# Altium schematic symbol library Schlib1.SchLib: 36 symbols (part 1 of 2)
Pins are listed as number, name and electrical type; pins without a type are passive.

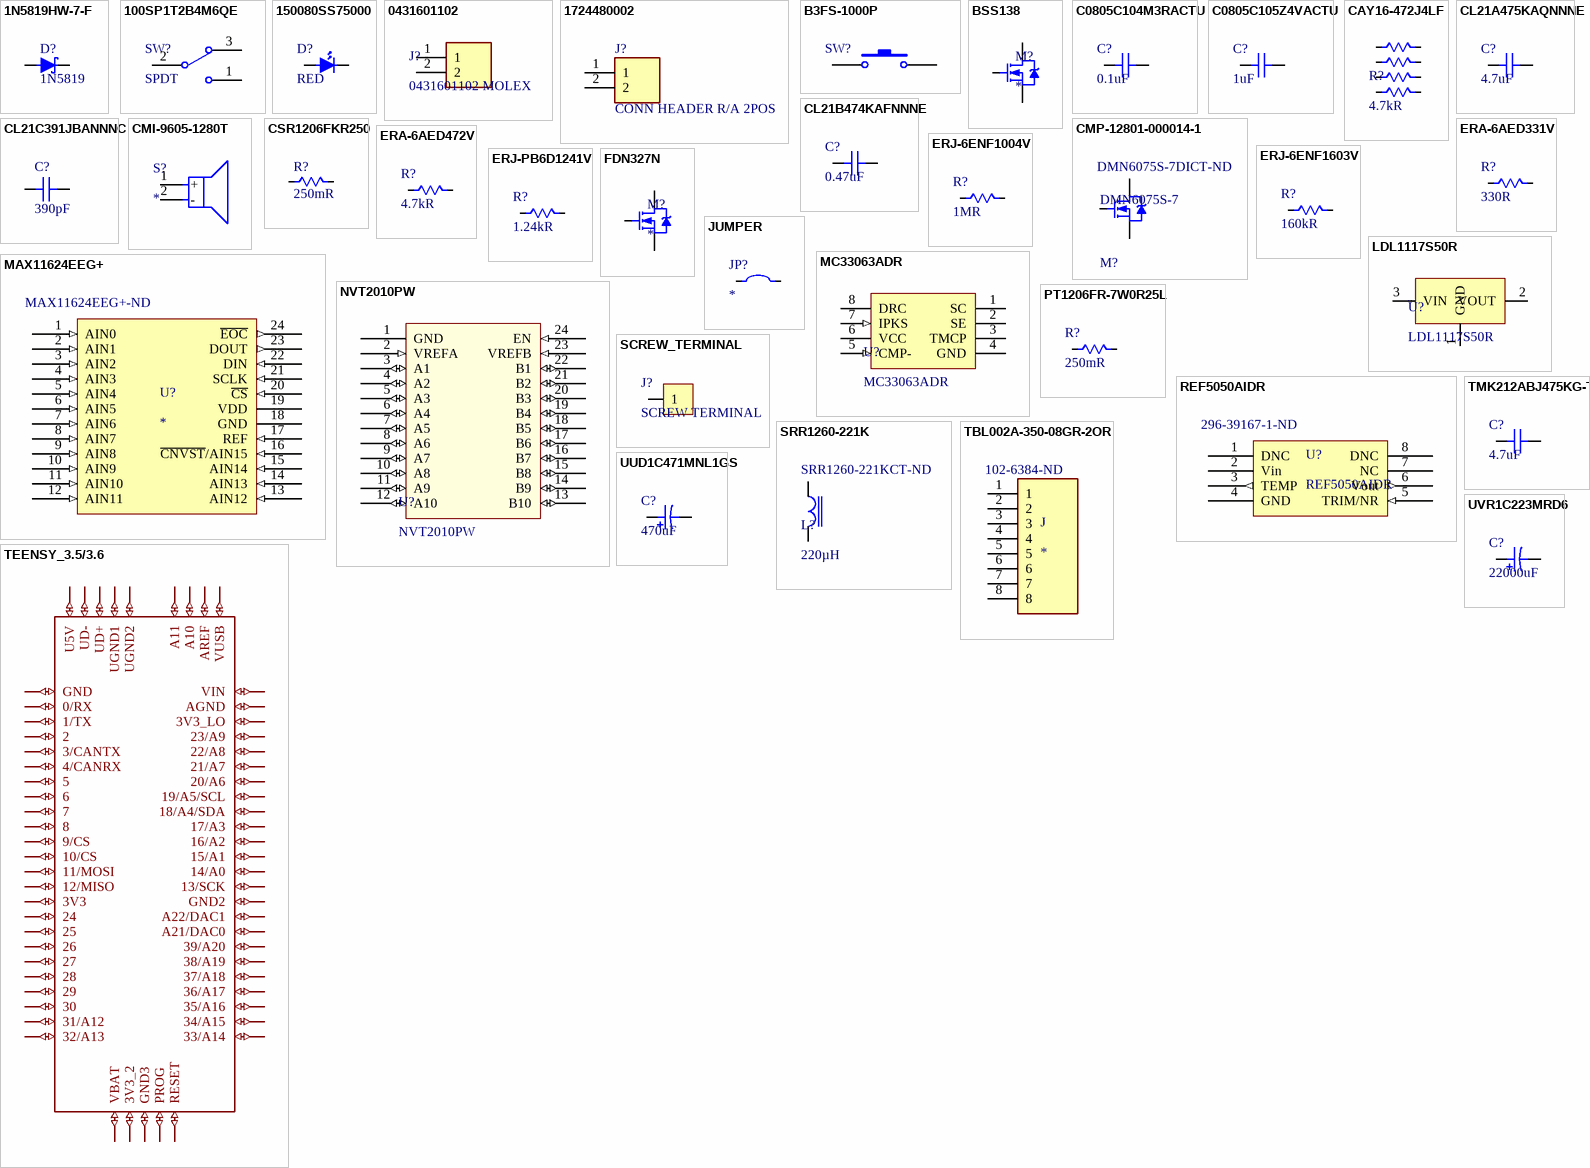
[diagram p0: symbols 1N5819HW-7-F to UVR1C223MRD6]

## 1N5819HW-7-F
designator D?, comment 1N5819
DIODES INC. - 1N5819HW-7-F - DIODE, SCKY RECTI, 1A, 40V, SOD123; Element Configuration: Single; Peak Non-Repetitive Surge Current: 25A; Forward Voltage: 450mV; Peak Reverse Current: 50uA; Polarity: Standard; Capacitance: 110pF; Max Power Dissipation: 450mW; Supplier 1: Digi-Key; Manufacturer: Diodes; Manufacturer Part Number: 1N5819HW-7-F; RoHS: Yes; Category: Diode; Stock 1: 502732; Pricing 1: 1=0.40000, 10=0.30100, 25=0.26360, 100=0.14310, 500=0.11678, 1000=0.08664 (USD); Case/Package: SOD-123-2; Number of Pins: 2; Weight: 0.000353oz; Contact Plating: Tin,Matte; Min Operating Temperature: -65°C; Max Operating Temperature: 125°C; Packaging: Tape and Reel; Package Quantity: 3000; Forward Current: 1A; Max Repetitive Reverse Voltage (Vrrm): 40V; Average Rectified Current: 1A; Max Reverse Voltage (DC): 40V; Max Forward Surge Current (Ifsm): 25A; Current Rating: 1A; Voltage Rating (DC): 40V; Output Current: 1A; Termination: SMD/SMT; Length: 2.85mm; Height: 1.25mm; Width: 1.7mm; Radiation Hardening: No; Lead Free: Lead Free; REACH SVHC: No SVHC; ComponentLink1URL: https://datasheet.ciiva.com/16303/ds30217-16303296.pdf?src-supplier=Future+Electronics; ComponentLink1Description: https://datasheet.ciiva.com/16303/ds30217-16303296.pdf?src-supplier=Future+Electronics; ComponentLink2URL: https://datasheet.ciiva.com/27092/1538419-27092484.pdf?src-supplier=Jameco; ComponentLink2Description: https://datasheet.ciiva.com/27092/1538419-27092484.pdf?src-supplier=Jameco; ComponentLink3URL: https://datasheet.ciiva.com/912/ds30217-912801.pdf?src-supplier=Digi-Key; ComponentLink3Description: https://datasheet.ciiva.com/912/ds30217-912801.pdf?src-supplier=Digi-Key; ComponentLink4URL: https://datasheet.ciiva.com/1177/ds30217-1177089.pdf?src-supplier=Element14; ComponentLink4Description: https://datasheet.ciiva.com/1177/ds30217-1177089.pdf?src-supplier=Element14; ComponentLink5URL: https://datasheet.ciiva.com/912/ds30217-912802.pdf?src-supplier=Digi-Key; ComponentLink5Description: https://datasheet.ciiva.com/912/ds30217-912802.pdf?src-supplier=Digi-Key; ComponentLink6URL: https://datasheet.ciiva.com/912/ds30217-912803.pdf?src-supplier=Digi-Key; ComponentLink6Description: https://datasheet.ciiva.com/912/ds30217-912803.pdf?src-supplier=Digi-Key; ComponentLink7URL: https://datasheet.ciiva.com/8303/ds30217-8303132.pdf?src-supplier=Avnet; ComponentLink7Description: https://datasheet.ciiva.com/8303/ds30217-8303132.pdf?src-supplier=Avnet; ComponentLink8URL: https://datasheet.ciiva.com/25919/ds30217-25919644.pdf?src-supplier=Avnet+Europe; ComponentLink8Description: https://datasheet.ciiva.com/25919/ds30217-25919644.pdf?src-supplier=Avnet+Europe; Supplier Part Number 1: 1N5819HW-FDICT-ND
footprint SOD123
pins: 1, 2

## 100SP1T2B4M6QE
designator SW?, comment SPDT
Switch Toggle ON None ON SPDT Round Lever PC Pins 5A 250VAC 28VDC PC Mount with Bracket; Manufacturer: E-Switch; Manufacturer Part Number: 100SP1T2B4M6QE; Actuator Material: Brass; Switch Function: On-On; Actuator Type: Standard Round; Voltage Rating (AC): 120V; Voltage Rating (DC): 28V; Contact Resistance: 100mR; Max Voltage Rating (AC): 250V; Illumination Type: Non-Illuminated; Electrical Life: 40000Cycles; Actuator Length: 6.46mm; Supplier 1: Digi-Key; Category: Switch; Stock 1: 3257; Pricing 1: 1=3.01000, 10=2.69700, 25=2.54800, 50=2.43620, 100=2.31200, 250=2.21256, 500=2.03852, 1000=1.93908 (USD); Mount: Through Hole; Housing Material: Stainless Steel; Contact Material: Silver; Contact Plating: Silver; Min Operating Temperature: -30°C; Max Operating Temperature: 85°C; Throw Configuration: SPDT; Package Quantity: 1; Current Rating: 5A; Packaging: Bulk; Max Voltage Rating (DC): 28V; Termination: PC Pin; Orientation: Right Angle; Length: 12.7mm; Width: 6.86mm; Lead Free: Lead Free; ComponentLink1URL: https://datasheet.ciiva.com/2904/t111069-2904823.pdf?src-supplier=Digi-Key; ComponentLink1Description: https://datasheet.ciiva.com/2904/t111069-2904823.pdf?src-supplier=Digi-Key; ComponentLink2URL: https://datasheet.ciiva.com/16154/100-16154566.pdf?src-supplier=Onlinecomponents.com; ComponentLink2Description: https://datasheet.ciiva.com/16154/100-16154566.pdf?src-supplier=Onlinecomponents.com; ComponentLink3URL: http://datasheet.octopart.com/100SP1T2B4M6QE-E-Switch-datasheet-501321.pdf?src-supplier=Electro+Sonic; ComponentLink3Description: http://datasheet.octopart.com/100SP1T2B4M6QE-E-Switch-datasheet-501321.pdf?src-supplier=Electro+Sonic; ComponentLink4URL: http://datasheet.octopart.com/100SP1T2B4M6QE-E-Switch-datasheet-41351065.pdf?src-supplier=Farnell; ComponentLink4Description: http://datasheet.octopart.com/100SP1T2B4M6QE-E-Switch-datasheet-41351065.pdf?src-supplier=Farnell; ComponentLink5URL: http://datasheet.octopart.com/100SP1T2B4M6QE-E-Switch-datasheet-112052116.pdf?src-supplier=Electro+Sonic; ComponentLink5Description: http://datasheet.octopart.com/100SP1T2B4M6QE-E-Switch-datasheet-112052116.pdf?src-supplier=Electro+Sonic; ComponentLink6URL: http://datasheet.octopart.com/100SP1T2B4M6QE-E-Switch-datasheet-26830754.pdf?src-supplier=Electro+Sonic; ComponentLink6Description: http://datasheet.octopart.com/100SP1T2B4M6QE-E-Switch-datasheet-26830754.pdf?src-supplier=Electro+Sonic; ComponentLink7URL: http://datasheet.octopart.com/100SP1T2B4M6QE-E-Switch-datasheet-62101310.pdf?src-supplier=Electro+Sonic; ComponentLink7Description: http://datasheet.octopart.com/100SP1T2B4M6QE-E-Switch-datasheet-62101310.pdf?src-supplier=Electro+Sonic; Supplier Part Number 1: EG2362-ND
footprint 100SP1T2B4M6QE
pins: 1, 2, 3

## 150080SS75000
designator D?, comment RED
WURTH ELEKTRONIK   150080SS75000   LED, 0805, SUP RED, 60MCD, 630NM; Manufacturer: Wurth Electronics; Forward Current: 30mA; Forward Voltage: 1.9V; Viewing Angle: 140°; Lens Style: Clear,Rectangular; Test Current: 20mA; Supplier 1: Digi-Key; Manufacturer Part Number: 150080SS75000; RoHS: Yes; Category: LEDs; Stock 1: 6006; Pricing 1: 1=0.18000, 50=0.16500, 100=0.14200, 500=0.12300 (USD); Mount: Surface Mount; Case/Package: 0805; Color: Red; Case Code (Metric): 2012; Case Code (Imperial): 0805; Min Operating Temperature: -40°C; Max Operating Temperature: 85°C; Luminous Intensity: 60mcd; Wavelength: 630nm; Package Quantity: 4000; Packaging: Tape and Reel; Dominant Wavelength: 630nm; Length: 2mm; Height: 0.7mm; Width: 1.25mm; REACH SVHC: Unknown; ComponentLink1URL: https://datasheet.ciiva.com/22656/150080ss75000-22656963.pdf?src-supplier=Element14; ComponentLink1Description: https://datasheet.ciiva.com/22656/150080ss75000-22656963.pdf?src-supplier=Element14; ComponentLink2URL: https://datasheet.ciiva.com/29279/759436-da-01-en-chipled-0805-w-kl-s-rot-150080ss75000-29279211.pdf?src-supplier=Conrad; ComponentLink2Description: https://datasheet.ciiva.com/29279/759436-da-01-en-chipled-0805-w-kl-s-rot-150080ss75000-29279211.pdf?src-supplier=Conrad; ComponentLink3URL: https://datasheet.ciiva.com/29563/150080ss75000-29563014.pdf?src-supplier=Digi-Key; ComponentLink3Description: https://datasheet.ciiva.com/29563/150080ss75000-29563014.pdf?src-supplier=Digi-Key; ComponentLink4URL: https://datasheet.ciiva.com/29563/150080ss75000-29563015.pdf?src-supplier=Digi-Key; ComponentLink4Description: https://datasheet.ciiva.com/29563/150080ss75000-29563015.pdf?src-supplier=Digi-Key; ComponentLink5URL: https://datasheet.ciiva.com/29563/150080ss75000-29563013.pdf?src-supplier=Digi-Key; ComponentLink5Description: https://datasheet.ciiva.com/29563/150080ss75000-29563013.pdf?src-supplier=Digi-Key; Supplier Part Number 1: 732-4985-1-ND
footprint 150080SS75000
pins: 1, 2

## 0431601102
designator J?, comment 0431601102 MOLEX
Conn Power HDR 2 POS 7.49mm Solder RA Thru-Hole 4 Terminal 1 Port Sabre™ Tray; Number of Positions: 2; Voltage Rating: 600V; Current Rating: 18A; Number of Ports: 1; Supplier 1: Digi-Key; Manufacturer: Molex; Manufacturer Part Number: 0431601102; RoHS: Yes; Category: Connector; Stock 1: 1299; Pricing 1: 1=1.45000, 10=1.27400, 100=1.09960, 500=0.89964, 1000=0.79968, 5000=0.69972, 10000=0.66473 (USD); Mount: Through Hole; Contact Material: Brass; Contact Plating: Tin,Copper; Color: Black; Housing Material: Nylon; Number of Terminals: 4; Insulation Material: Nylon; Min Operating Temperature: -40°C; Max Operating Temperature: 75°C; Termination: Solder; Number of Contacts: 2; Packaging: Tray; Number of Rows: 1; Orientation: Right Angle; Fastening Type: Ramp; Length: 21.08mm; Pitch: 7.49mm; Depth: 19.79mm; ComponentLink1URL: http://components.arrow.com/part/dataview/2942885S5777586N3303?src-supplier=Arrow; ComponentLink1Description: http://components.arrow.com/part/dataview/2942885S5777586N3303?src-supplier=Arrow; ComponentLink2URL: http://components.arrow.com/part/dataview/0323_01950480?src-supplier=Arrow+Europe; ComponentLink2Description: http://components.arrow.com/part/dataview/0323_01950480?src-supplier=Arrow+Europe; ComponentLink3URL: https://www.molex.com/pdm_docs/ps/PS-44441-9999.pdf?src-supplier=Digi-Key; ComponentLink3Description: https://www.molex.com/pdm_docs/ps/PS-44441-9999.pdf?src-supplier=Digi-Key; Supplier Part Number 1: WM18483-ND
footprint 0431601102 (CONN HDR 2POS 7.50MM R/A SLDR)
pins: 1, 2

## 1724480002
designator J?, comment CONN HEADER R/A 2POS
Manufacturer: Molex; Manufacturer Part Number: 1724480002; Connector Type: Male Pin; Number of Circuits: 2; Row Spacing: 0.165inch; Glow Wire Compliant: Compliant; Supplier 1: Digi-Key; RoHS: No; Category: Headers and Wire Housings; Stock 1: 6210; Pricing 1: 1=0.55000, 10=0.46000, 100=0.35780, 1000=0.28116, 5000=0.24708, 10000=0.23004 (USD); Mount: Through Hole; Number of Pins: 2; Contact Plating: Tin; Color: Black; Orientation: Right Angle; Packaging: Tray; Number of Positions: 2; Number of Rows: 2; Termination: Solder; Fastening Type: Ramp; ComponentLink1URL: https://www.molex.com/pdm_docs/sd/1724480002_sd.pdf?src-supplier=Digi-Key; ComponentLink1Description: https://www.molex.com/pdm_docs/sd/1724480002_sd.pdf?src-supplier=Digi-Key; Supplier Part Number 1: WM16206-ND
footprint 2 POS MOLEX (1724480002)
pins: 1, 2

## B3FS-1000P
designator SW?  (value not drawn)
OMRON - B3FS1000P - SWITCH, FLAT, 6X6X3.1, 100GF; Manufacturer Part Number: B3FS-1000P; Mechanical Life: 1000000Cycles; Throw Configuration: SPST; Current Rating: 50mA; Operating Force: 0.98N; Voltage Rating (DC): 24V; Contact Resistance: 100mR; Illumination Type: Non-Illuminated,Illuminated; Number of Poles: 1; Switch Travel: 0.25mm; Switch Function: Off-Mom; Actuator Type: Standard; Actuator Length: 0.5mm; Supplier 1: Digi-Key; Manufacturer: Omron; RoHS: Yes; Category: Switch; Stock 1: 62498; Pricing 1: 1=0.59000, 10=0.57000, 25=0.54880, 100=0.47500, 250=0.43276, 500=0.40110, 1000=0.35887 (USD); Mount: Surface Mount; Case/Package: SMD/SMT; Weight: 0.2g; Contact Plating: Silver; Contact Material: Silver; Material: Plastic; Min Operating Temperature: -25°C; Max Operating Temperature: 70°C; Package Quantity: 1; Packaging: Tape and Reel; Contact Current Rating: 50mA; Max Current Rating: 50mA; Max Voltage Rating (DC): 24V; Termination: Gull Wing; Electrical Life: 1000000Cycles; Orientation: Straight; Length: 6.3mm; Depth: 8mm; REACH SVHC: Unknown; Lead Free: Lead Free; ComponentLink1URL: https://datasheet.ciiva.com/2899/en-b3fs-2899744.pdf?src-supplier=Digi-Key; ComponentLink1Description: https://datasheet.ciiva.com/2899/en-b3fs-2899744.pdf?src-supplier=Digi-Key; ComponentLink2URL: https://datasheet.ciiva.com/2899/en-b3fs-2899745.pdf?src-supplier=Digi-Key; ComponentLink2Description: https://datasheet.ciiva.com/2899/en-b3fs-2899745.pdf?src-supplier=Digi-Key; ComponentLink3URL: https://datasheet.ciiva.com/2899/en-b3fs-2899746.pdf?src-supplier=Digi-Key; ComponentLink3Description: https://datasheet.ciiva.com/2899/en-b3fs-2899746.pdf?src-supplier=Digi-Key; ComponentLink4URL: https://datasheet.ciiva.com/1532/en-b3fs-1532627.pdf?src-supplier=Element14; ComponentLink4Description: https://datasheet.ciiva.com/1532/en-b3fs-1532627.pdf?src-supplier=Element14; ComponentLink5URL: https://datasheet.ciiva.com/26827/getdatasheetpartid-131603-26827237.pdf?src-supplier=Verical; ComponentLink5Description: https://datasheet.ciiva.com/26827/getdatasheetpartid-131603-26827237.pdf?src-supplier=Verical; ComponentLink6URL: https://datasheet.ciiva.com/16154/en-b3fs-16154936.pdf?src-supplier=Onlinecomponents.com; ComponentLink6Description: https://datasheet.ciiva.com/16154/en-b3fs-16154936.pdf?src-supplier=Onlinecomponents.com; ComponentLink7URL: https://datasheet.ciiva.com/30214/b3fs-0714-30214221.pdf?src-supplier=Onlinecomponents.com; ComponentLink7Description: https://datasheet.ciiva.com/30214/b3fs-0714-30214221.pdf?src-supplier=Onlinecomponents.com; Supplier Part Number 1: SW423CT-ND
footprint B3FS-1000P
pins: 1, 2

## BSS138
designator M?
Trans MOSFET N-CH 50V 0.22A 3-Pin SOT-23 T/R; Manufacturer: ON Semiconductor / Fairchild; Manufacturer Part Number: BSS138; Rds On Max: 3.5R; Continuous Drain Current (ID): 220mA; Max Power Dissipation: 360mW; Turn-Off Delay Time: 20ns; Gate to Source Voltage (Vgs): 20V; Input Capacitance: 27pF; Turn-On Delay Time: 2.5ns; Number of Elements: 1; Element Configuration: Single; Fall Time: 9ns; Threshold Voltage: 1.3V; On-State Resistance: 6R; Supplier 1: Digi-Key; RoHS: Yes; Category: MOSFET; Stock 1: 803321; Pricing 1: 1=0.26000, 10=0.21400, 25=0.17920, 100=0.08760, 500=0.07304, 1000=0.05075 (USD); Mount: Surface Mount; Case/Package: SOT-23; Number of Pins: 3; Weight: 0.03g; Contact Plating: Tin,Matte; Min Operating Temperature: -55°C; Max Operating Temperature: 150°C; Packaging: Tape and Reel; Drain to Source Voltage (Vdss): 50V; Power Dissipation: 360mW; Drain to Source Breakdown Voltage: 50V; Drain to Source Resistance: 3.5R; Package Quantity: 1; Rise Time: 9ns; Voltage Rating (DC): 50V; Current Rating: 220mA; Nominal Vgs: 1.3V; Termination: SMD/SMT; Dual Supply Voltage: 50V; Length: 2.92mm; Height: 0.93mm; Width: 1.3mm; Radiation Hardening: No; Lead Free: Lead Free; REACH SVHC: No SVHC; ComponentLink1URL: https://datasheet.ciiva.com/931/bss138-931776.pdf?src-supplier=Digi-Key; ComponentLink1Description: https://datasheet.ciiva.com/931/bss138-931776.pdf?src-supplier=Digi-Key; ComponentLink2URL: https://datasheet.ciiva.com/1190/193736-1190130.pdf?src-supplier=Element14; ComponentLink2Description: https://datasheet.ciiva.com/1190/193736-1190130.pdf?src-supplier=Element14; ComponentLink3URL: https://datasheet.ciiva.com/3304/bss138-3304424.pdf?src-supplier=Avnet; ComponentLink3Description: https://datasheet.ciiva.com/3304/bss138-3304424.pdf?src-supplier=Avnet; ComponentLink4URL: https://datasheet.ciiva.com/27050/784896-27050043.pdf?src-supplier=Jameco; ComponentLink4Description: https://datasheet.ciiva.com/27050/784896-27050043.pdf?src-supplier=Jameco; ComponentLink5URL: https://datasheet.ciiva.com/1190/193736-1190131.pdf?src-supplier=Element14; ComponentLink5Description: https://datasheet.ciiva.com/1190/193736-1190131.pdf?src-supplier=Element14; ComponentLink6URL: https://datasheet.ciiva.com/1254/193736-1254983.pdf?src-supplier=Newark; ComponentLink6Description: https://datasheet.ciiva.com/1254/193736-1254983.pdf?src-supplier=Newark; ComponentLink7URL: https://datasheet.ciiva.com/22655/193736-22655240.pdf?src-supplier=Element14; ComponentLink7Description: https://datasheet.ciiva.com/22655/193736-22655240.pdf?src-supplier=Element14; ComponentLink8URL: https://datasheet.ciiva.com/16834/bss138-16834843.pdf?src-supplier=Future+Electronics; ComponentLink8Description: https://datasheet.ciiva.com/16834/bss138-16834843.pdf?src-supplier=Future+Electronics; ComponentLink9URL: https://datasheet.ciiva.com/26229/bss138-26229007.pdf?src-supplier=Avnet+Europe; ComponentLink9Description: https://datasheet.ciiva.com/26229/bss138-26229007.pdf?src-supplier=Avnet+Europe; Supplier Part Number 1: BSS138CT-ND
footprint BSS138 (SOT23, 3-Leads, Body 2.90x2.35mm, Pitch 0.95mm, IPC Medium Density)
pins: D, G, S

## C0805C104M3RACTU
designator C?, comment 0.1uF
CAP CER 0.1UF 25V X7R 0805; Manufacturer: KEMET; Manufacturer Part Number: C0805C104M3RACTU; Dielectric Material: Ceramic; Capacitance: 100nF; Tolerance: 20%; Dissipation Factor: 5%; Supplier 1: Digi-Key; RoHS: Yes; Category: Capacitor; Stock 1: 305175; Pricing 1: 1=0.10000, 10=0.06800, 50=0.03700, 100=0.03020, 500=0.02160, 1000=0.01697 (USD); Mount: Surface Mount; Case/Package: 0805; Case Code (Metric): 2012; Case Code (Imperial): 0805; Min Operating Temperature: -55°C; Max Operating Temperature: 125°C; Package Quantity: 1; Voltage Rating: 25V; Packaging: Tape and Reel; Voltage Rating (DC): 25V; Dielectric: X7R; Termination: SMD/SMT; Voltage: 25V; Length: 2mm; Height: 0.9mm; Width: 0.049inch; Thickness: 0.035inch; Lead Pitch: 0.75mm; Depth: 1.25mm; Radiation Hardening: No; REACH SVHC: No SVHC; ComponentLink1URL: http://www.mouser.com/ds/2/212/KEM_C1002_X7R_SMD-1102033.pdf?src-supplier=Mouser; ComponentLink1Description: http://www.mouser.com/ds/2/212/KEM_C1002_X7R_SMD-1102033.pdf?src-supplier=Mouser; ComponentLink2URL: http://uk.rs-online.com/webdocs/13da/0900766b813da9ff.pdf?src-supplier=RSComponents; ComponentLink2Description: http://uk.rs-online.com/webdocs/13da/0900766b813da9ff.pdf?src-supplier=RSComponents; ComponentLink3URL: http://components.arrow.com/part/dataview/0323_00178100?src-supplier=Arrow+Europe; ComponentLink3Description: http://components.arrow.com/part/dataview/0323_00178100?src-supplier=Arrow+Europe; ComponentLink4URL: https://www.alliedelec.com/m/d/6f3b5eb83d09db50ed28bdc730567b33.pdf?src-supplier=Allied+Electronics; ComponentLink4Description: https://www.alliedelec.com/m/d/6f3b5eb83d09db50ed28bdc730567b33.pdf?src-supplier=Allied+Electronics; ComponentLink5URL: http://www.farnell.com/datasheets/2746330.pdf?src-supplier=Farnell; ComponentLink5Description: http://www.farnell.com/datasheets/2746330.pdf?src-supplier=Farnell; ComponentLink6URL: http://www.jameco.com/Jameco/Products/ProdDS/1566487.pdf?src-supplier=Jameco; ComponentLink6Description: http://www.jameco.com/Jameco/Products/ProdDS/1566487.pdf?src-supplier=Jameco; ComponentLink7URL: http://components.arrow.com/part/dataview/2091097S3491315N7429?src-supplier=Arrow+Electronics; ComponentLink7Description: http://components.arrow.com/part/dataview/2091097S3491315N7429?src-supplier=Arrow+Electronics; ComponentLink8URL: https://www.alliedelec.com/m/d/e7aa2b5497e2375e4ffc0e8be19e16e2.pdf?src-supplier=Allied+Electronics; ComponentLink8Description: https://www.alliedelec.com/m/d/e7aa2b5497e2375e4ffc0e8be19e16e2.pdf?src-supplier=Allied+Electronics; ComponentLink9URL: http://uk.rs-online.com/webdocs/13da/0900766b813daa05.pdf?src-supplier=RSComponents; ComponentLink9Description: http://uk.rs-online.com/webdocs/13da/0900766b813daa05.pdf?src-supplier=RSComponents; ComponentLink10URL: http://www.farnell.com/datasheets/2746330.pdf?src-supplier=Element14; ComponentLink10Description: http://www.farnell.com/datasheets/2746330.pdf?src-supplier=Element14; ComponentLink11URL: https://api.kemet.com/component-edge/download/datasheet/C0805C104M3RACTU.pdf?src-supplier=Digi-Key; ComponentLink11Description: https://api.kemet.com/component-edge/download/datasheet/C0805C104M3RACTU.pdf?src-supplier=Digi-Key; ComponentLink12URL: http://www.farnell.com/datasheets/1828800.pdf?src-supplier=Newark; ComponentLink12Description: http://www.farnell.com/datasheets/1828800.pdf?src-supplier=Newark; ComponentLink13URL: http://www.farnell.com/datasheets/2746330.pdf?src-supplier=Newark; ComponentLink13Description: http://www.farnell.com/datasheets/2746330.pdf?src-supplier=Newark; ComponentLink14URL: http://capacitoredge.kemet.com/capedge2/DataSheet?pn=C0805C104M3RACTU&src-supplier=Avnet; ComponentLink14Description: http://capacitoredge.kemet.com/capedge2/DataSheet?pn=C0805C104M3RACTU&src-supplier=Avnet; Supplier Part Number 1: 399-8000-1-ND
footprint CAP_0805 (Chip Capacitor, 2-Leads, Body 2.05x1.30mm, IPC Medium Density)
pins: 1, 2

## C0805C105Z4VACTU
designator C?, comment 1uF
Cap Ceramic 1uF 16V Y5V -20% to 80% Pad SMD 0805 85C T/R; Manufacturer: KEMET; Manufacturer Part Number: C0805C105Z4VACTU; Dissipation Factor: 7%; Supplier 1: Digi-Key; Category: Capacitor; Stock 1: 83211; Pricing 1: 1=0.11000, 10=0.08100, 50=0.04420, 100=0.03620, 500=0.02584, 1000=0.02030 (USD); Mount: Surface Mount; Case/Package: 0805; Number of Pins: 2; Case Code (Metric): 2012; Case Code (Imperial): 0805; Contact Material: Tin; Dielectric Material: Ceramic; Min Operating Temperature: -30°C; Max Operating Temperature: 85°C; Package Quantity: 1; Capacitance: 1uF; Voltage Rating: 16V; Tolerance: 80%; Packaging: Tape and Reel; Voltage Rating (DC): 16V; Dielectric: Y5V; Termination: SMD/SMT; Voltage: 16V; Length: 2mm; Height: 1.25mm; Width: 0.049inch; Thickness: 0.055inch; Lead Pitch: 0.75mm; Depth: 1.25mm; Radiation Hardening: No; REACH SVHC: No SVHC; Lead Free: Lead Free; ComponentLink1URL: https://datasheet.ciiva.com/6074/1698780-6074369.pdf?src-supplier=Farnell; ComponentLink1Description: https://datasheet.ciiva.com/6074/1698780-6074369.pdf?src-supplier=Farnell; ComponentLink2URL: https://datasheet.ciiva.com/16623/datasheetpn-c0805c105z4vac7800-16623623.pdf?src-supplier=Avnet+Europe; ComponentLink2Description: https://datasheet.ciiva.com/16623/datasheetpn-c0805c105z4vac7800-16623623.pdf?src-supplier=Avnet+Europe; ComponentLink3URL: https://datasheet.ciiva.com/14604/70095383-14604106.pdf?src-supplier=Allied+Electronics; ComponentLink3Description: https://datasheet.ciiva.com/14604/70095383-14604106.pdf?src-supplier=Allied+Electronics; ComponentLink4URL: https://datasheet.ciiva.com/7600/1698780-7600029.pdf?src-supplier=Newark; ComponentLink4Description: https://datasheet.ciiva.com/7600/1698780-7600029.pdf?src-supplier=Newark; ComponentLink5URL: https://datasheet.ciiva.com/14589/70095383-14589407.pdf?src-supplier=Allied+Electronics; ComponentLink5Description: https://datasheet.ciiva.com/14589/70095383-14589407.pdf?src-supplier=Allied+Electronics; ComponentLink6URL: http://datasheet.octopart.com/C0805C105Z4VACTU-Kemet-datasheet-13692877.pdf?src-supplier=Element14; ComponentLink6Description: http://datasheet.octopart.com/C0805C105Z4VACTU-Kemet-datasheet-13692877.pdf?src-supplier=Element14; ComponentLink7URL: http://datasheet.octopart.com/C0805C105Z4VACTU-Kemet-datasheet-503297.pdf?src-supplier=Newark; ComponentLink7Description: http://datasheet.octopart.com/C0805C105Z4VACTU-Kemet-datasheet-503297.pdf?src-supplier=Newark; ComponentLink8URL: http://datasheet.octopart.com/C0805C105Z4VACTU-KEMET-datasheet-101576167.pdf?src-supplier=Farnell; ComponentLink8Description: http://datasheet.octopart.com/C0805C105Z4VACTU-KEMET-datasheet-101576167.pdf?src-supplier=Farnell; ComponentLink9URL: http://datasheet.octopart.com/C0805C105Z4VACTU-KEMET-datasheet-83957834.pdf?src-supplier=TME; ComponentLink9Description: http://datasheet.octopart.com/C0805C105Z4VACTU-KEMET-datasheet-83957834.pdf?src-supplier=TME; ComponentLink10URL: http://datasheet.octopart.com/C0805C105Z4VACTU-Kemet-datasheet-5313890.pdf?src-supplier=Verical; ComponentLink10Description: http://datasheet.octopart.com/C0805C105Z4VACTU-Kemet-datasheet-5313890.pdf?src-supplier=Verical; ComponentLink11URL: http://datasheet.octopart.com/C0805C105Z4VAC-TU-Kemet-datasheet-8204015.pdf?src-supplier=Jameco; ComponentLink11Description: http://datasheet.octopart.com/C0805C105Z4VAC-TU-Kemet-datasheet-8204015.pdf?src-supplier=Jameco; ComponentLink12URL: http://datasheet.octopart.com/C0805C105Z4VACTU-Kemet-datasheet-464.pdf?src-supplier=Allied+Electronics; ComponentLink12Description: http://datasheet.octopart.com/C0805C105Z4VACTU-Kemet-datasheet-464.pdf?src-supplier=Allied+Electronics; ComponentLink13URL: http://datasheet.octopart.com/C0805C105Z4VACTU-Kemet-datasheet-11554470.pdf?src-supplier=Arrow; ComponentLink13Description: http://datasheet.octopart.com/C0805C105Z4VACTU-Kemet-datasheet-11554470.pdf?src-supplier=Arrow; ComponentLink14URL: http://datasheet.octopart.com/C0805C105Z4VACTU-Kemet-datasheet-66128697.pdf?src-supplier=Element14; ComponentLink14Description: http://datasheet.octopart.com/C0805C105Z4VACTU-Kemet-datasheet-66128697.pdf?src-supplier=Element14; ComponentLink15URL: http://datasheet.octopart.com/C0805C105Z4VACTU-Kemet-datasheet-66325528.pdf?src-supplier=Newark; ComponentLink15Description: http://datasheet.octopart.com/C0805C105Z4VACTU-Kemet-datasheet-66325528.pdf?src-supplier=Newark; ComponentLink16URL: http://datasheet.octopart.com/C0805C105Z4VACTU-Kemet-datasheet-67847115.pdf?src-supplier=TME; ComponentLink16Description: http://datasheet.octopart.com/C0805C105Z4VACTU-Kemet-datasheet-67847115.pdf?src-supplier=TME; ComponentLink17URL: http://datasheet.octopart.com/C0805C105Z4VACTU-KEMET-datasheet-84169754.pdf; ComponentLink17Description: http://datasheet.octopart.com/C0805C105Z4VACTU-KEMET-datasheet-84169754.pdf; ComponentLink18URL: http://datasheet.octopart.com/C0805C105Z4VACTU-KEMET-datasheet-41193421.pdf?src-supplier=Master+Electronics; ComponentLink18Description: http://datasheet.octopart.com/C0805C105Z4VACTU-KEMET-datasheet-41193421.pdf?src-supplier=Master+Electronics; Supplier Part Number 1: 399-8011-1-ND
footprint CAP_0805 (Chip Capacitor, 2-Leads, Body 2.05x1.30mm, IPC Medium Density)
pins: 1, 2

## CAY16-472J4LF
designator R?, comment 4.7kR
RES ARRAY 4 RES 4.7K OHM 1206; Manufacturer: Bourns; Manufacturer Part Number: CAY16-472J4LF; Number of Resistors: 4; Voltage Rating (DC): 50V; Circuit Type: Isolated; Power Per Element: 62.5mW; Temperature Coefficient: 200ppm/°C; Tolerance: 5%; Power Rating: 248mW; Supplier 1: Digi-Key; RoHS: Yes; Category: Resistor; Stock 1: 28152; Pricing 1: 1=0.10000, 10=0.06900, 25=0.04760, 50=0.03720, 100=0.02650, 250=0.02068, 500=0.01644, 1000=0.01166 (USD); Mount: Surface Mount; Case/Package: 1206; Number of Pins: 8; Number of Terminals: 8; Contact Plating: Tin; Case Code (Imperial): 1206; Case Code (Metric): 3216; Min Operating Temperature: -55°C; Max Operating Temperature: 125°C; Resistance: 4.7kR; Number of Circuits: 4; Termination: Convex; Military Standard: Not; Composition: Thick Film; Voltage Rating: 50V; Number of Elements: 4; Packaging: Tape and Reel; Package Quantity: 1; Length: 3.2mm; Height: 0.024inch; Terminal Pitch: 0.8mm; Depth: 1.6mm; Width: 0.063inch; Radiation Hardening: No; REACH SVHC: No SVHC; ComponentLink1URL: https://datasheet.ciiva.com/19466/1979708-19466930.pdf?src-supplier=Jameco; ComponentLink1Description: https://datasheet.ciiva.com/19466/1979708-19466930.pdf?src-supplier=Jameco; ComponentLink2URL: https://datasheet.ciiva.com/11807/0900766b8064e462-11807155.pdf?src-supplier=RSComponents; ComponentLink2Description: https://datasheet.ciiva.com/11807/0900766b8064e462-11807155.pdf?src-supplier=RSComponents; ComponentLink3URL: https://datasheet.ciiva.com/1478/1849489-1478912.pdf?src-supplier=Element14; ComponentLink3Description: https://datasheet.ciiva.com/1478/1849489-1478912.pdf?src-supplier=Element14; ComponentLink4URL: https://datasheet.ciiva.com/25907/catcay-25907158.pdf?src-supplier=Avnet+Europe; ComponentLink4Description: https://datasheet.ciiva.com/25907/catcay-25907158.pdf?src-supplier=Avnet+Europe; ComponentLink5URL: https://datasheet.ciiva.com/30249/catcay-30249688.pdf?src-supplier=Onlinecomponents.com; ComponentLink5Description: https://datasheet.ciiva.com/30249/catcay-30249688.pdf?src-supplier=Onlinecomponents.com; ComponentLink6URL: https://datasheet.ciiva.com/6494/catcay-6494015.pdf?src-supplier=Digi-Key; ComponentLink6Description: https://datasheet.ciiva.com/6494/catcay-6494015.pdf?src-supplier=Digi-Key; ComponentLink7URL: https://datasheet.ciiva.com/3264/catcay-3264889.pdf?src-supplier=Avnet; ComponentLink7Description: https://datasheet.ciiva.com/3264/catcay-3264889.pdf?src-supplier=Avnet; ComponentLink8URL: https://datasheet.ciiva.com/3263/catcay-3263770.pdf?src-supplier=Avnet; ComponentLink8Description: https://datasheet.ciiva.com/3263/catcay-3263770.pdf?src-supplier=Avnet; ComponentLink9URL: https://datasheet.ciiva.com/1478/1849489-1478911.pdf?src-supplier=Element14; ComponentLink9Description: https://datasheet.ciiva.com/1478/1849489-1478911.pdf?src-supplier=Element14; Supplier Part Number 1: CAY16-472J4LFCT-ND
footprint CAY16-472J4LF
pins: 1, 2, 3, 4, 5, 6, 7, 8

## CL21A475KAQNNNE
designator C?, comment 4.7uF
SAMSUNG ELECTRO-MECHANICS - CL21A475KAQNNNE - SMD Multilayer Ceramic Capacitor, 4.7 µF, 25 V, 0805 [2012 Metric], ± 10%, X5R, CL Series; Voltage Rating (DC): 25V; Supplier 1: Digi-Key; Manufacturer: Samsung; Manufacturer Part Number: CL21A475KAQNNNE; RoHS: Yes; Category: Ceramic Capacitors; Stock 1: 671990; Pricing 1: 1=0.11000, 10=0.08100, 50=0.04600, 100=0.03820, 500=0.02678, 1000=0.02216 (USD); Mount: Surface Mount; Case/Package: 0805; Case Code (Metric): 2012; Case Code (Imperial): 0805; Min Operating Temperature: -55°C; Max Operating Temperature: 85°C; Dielectric: X5R; Package Quantity: 1; Packaging: Tape and Reel; Capacitance: 4.7uF; Tolerance: 10%; Voltage Rating: 25V; Length: 2mm; Width: 0.049inch; Height: 1.25mm; Thickness: 0.055inch; Depth: 1.25mm; Radiation Hardening: No; Lead Free: Lead Free; ComponentLink1URL: https://datasheet.ciiva.com/25798/cl21a475kaqnnne-25798882.pdf?src-supplier=Digi-Key; ComponentLink1Description: https://datasheet.ciiva.com/25798/cl21a475kaqnnne-25798882.pdf?src-supplier=Digi-Key; Supplier Part Number 1: 1276-1244-1-ND
footprint CAP_0805 (Chip Capacitor, 2-Leads, Body 2.05x1.30mm, IPC Medium Density)
pins: 1, 2

## CL21B474KAFNNNE
designator C?, comment 0.47uF
CAP CER 0.47UF 25V X7R 0805; Manufacturer: Samsung; Manufacturer Part Number: CL21B474KAFNNNE; Capacitance: 470nF; Tolerance: 10%; Supplier 1: Digi-Key; RoHS: Yes; Category: Capacitor; Stock 1: 134676; Pricing 1: 1=0.10000, 10=0.05800, 50=0.03160, 100=0.02580, 500=0.01844, 1000=0.01449 (USD); Mount: Surface Mount; Case/Package: 0805; Case Code (Imperial): 0805; Case Code (Metric): 2012; Contact Plating: Tin; Min Operating Temperature: -55°C; Max Operating Temperature: 125°C; Dielectric: X7R; Package Quantity: 1; Packaging: Tape and Reel; Voltage Rating: 25V; Voltage Rating (DC): 25V; Length: 2mm; Height: 1.25mm; Thickness: 0.053inch; Depth: 1.25mm; Width: 0.049inch; Radiation Hardening: No; Lead Free: Lead Free; ComponentLink1URL: https://datasheet.ciiva.com/25799/cl21b474kafnnne-25799985.pdf?src-supplier=Digi-Key; ComponentLink1Description: https://datasheet.ciiva.com/25799/cl21b474kafnnne-25799985.pdf?src-supplier=Digi-Key; ComponentLink2URL: https://datasheet.ciiva.com/26838/getdatasheetpartid-640001-26838737.pdf?src-supplier=Verical; ComponentLink2Description: https://datasheet.ciiva.com/26838/getdatasheetpartid-640001-26838737.pdf?src-supplier=Verical; Supplier Part Number 1: 1276-1074-1-ND
footprint CAP_0805 (Chip Capacitor, 2-Leads, Body 2.05x1.30mm, IPC Medium Density)
pins: 1, 2

## CL21C391JBANNNC
designator C?, comment 390pF
Cap Ceramic 390pF 50V C0G 5% SMD 0805 125C Paper T/R; Manufacturer: Samsung; Manufacturer Part Number: CL21C391JBANNNC; Temperature Coefficient: 300ppm/°C; Supplier 1: Digi-Key; RoHS: Yes; Category: Ceramic Capacitors; Stock 1: 98292; Pricing 1: 1=0.11000, 10=0.08400, 50=0.04580, 100=0.03740, 500=0.02668, 1000=0.02096 (USD); Mount: Surface Mount; Case/Package: 0805; Case Code (Metric): 2012; Case Code (Imperial): 0805; Material: Ceramic; Min Operating Temperature: -55°C; Max Operating Temperature: 125°C; Tolerance: 5%; Capacitance: 390pF; Dielectric: C0G; Package Quantity: 1; Packaging: Tape and Reel; Voltage Rating: 50V; Voltage: 50V; Series: CL; Construction: Flat; Length: 2mm; Width: 0.049inch; Height: 0.65mm; Depth: 1.25mm; Thickness: 0.03inch; Radiation Hardening: No; RoHS Compliant: Yes; ComponentLink1URL: https://datasheet.ciiva.com/25733/cl21c391jbannnc-25733106.pdf?src-supplier=Digi-Key; ComponentLink1Description: https://datasheet.ciiva.com/25733/cl21c391jbannnc-25733106.pdf?src-supplier=Digi-Key; ComponentLink2URL: https://datasheet.ciiva.com/26838/getdatasheetpartid-687114-26838793.pdf?src-supplier=Verical; ComponentLink2Description: https://datasheet.ciiva.com/26838/getdatasheetpartid-687114-26838793.pdf?src-supplier=Verical; ComponentLink3URL: https://datasheet.ciiva.com/29200/453712-da-01-en-vs-kondensator-0805-29200047.pdf?src-supplier=Conrad; ComponentLink3Description: https://datasheet.ciiva.com/29200/453712-da-01-en-vs-kondensator-0805-29200047.pdf?src-supplier=Conrad; ComponentLink4URL: https://datasheet.ciiva.com/16448/cl05b104kq5nnnc-16448985.pdf?src-supplier=Future+Electronics; ComponentLink4Description: https://datasheet.ciiva.com/16448/cl05b104kq5nnnc-16448985.pdf?src-supplier=Future+Electronics; Supplier Part Number 1: 1276-1303-1-ND
footprint CAP_0805 (Chip Capacitor, 2-Leads, Body 2.05x1.30mm, IPC Medium Density)
pins: 1, 2

## CMI-9605-1280T
designator S?
Buzzers Indicator, Internally Driven Magnetic 12V 30mA 2.7kHz 80dB @ 12V, 10cm Through Hole PC Pins; Manufacturer: CUI; Manufacturer Part Number: CMI-9605-1280T; Supplier 1: Digi-Key; RoHS: No; Category: Audio Products; Stock 1: 2147; Pricing 1: 1=1.22000, 10=1.01900, 25=0.94360, 50=0.88800, 100=0.83460, 500=0.71806, 1000=0.67126, 5000=0.65780 (USD); Supplier Part Number 1: 102-CMI-9605-1280T-ND
footprint CMI-9605-1280T (MAGNETIC BUZZER INDICATOR)
pins: 1 +, 2 -

## CMP-12801-000014-1
designator M?, comment DMN6075S-7  Supplier Part Number 1: DMN6075S-7DICT-ND
MOSFET 60V N-Ch Enh FET 20Vgss 0.8W 600pF; Manufacturer: Diodes Inc.; Max Junction Temp: +150°C; Continuous Drain Current: 2A; Rthja Max: 157°C/W; Turn On Delay Time: 3.5ns; Gate To Source Voltage: 20V; Input Capacitace At Vds: 606pF @ 20V; Depletion Mode: False; Number Of Channels: 1; Pulse Drain Current: 12A; Standoff Height: 0.013mm; Turn Off Delay Time: 35ns; Threshold Vgs Max: 3V; Automotive Grade: Grade 0; Max Forward Diode Voltage: 1.2V; Gate Charge At Vgs: 12.3nC @ 10V; Threshold Vgs Min: 1V; Drain To Source Resistance: 69mΩ; Rds On Max: 85mR; Input Capacitance: 606pF; Max Power Dissipation: 800mW; Device Class L2: Transistors; Height: 1.1mm; ComponentLink2Description: Datasheet; Footprint Url: https://www.diodes.com/assets/Package-Files/SOT23.pdf; Device Class L1: Discrete Semiconductors; Digikey Description: MOSFET N-CH 60V 2A SOT23-3; Device Class L3: MOSFETs; Mouser Description: MOSFET 60V N-Ch Enh FET 20Vgss 0.8W 600pF; Manufacturer Part Number: DMN6075S-7; Package: SOT23; Power Dissipation: 0.8W; Temperature Range High: +150°C; Drain To Source Breakdown Voltage: 60V; Automotive: Yes; Lead Free: Yes; ComponentLink2URL: https://www.diodes.com/assets/Datasheets/DMN6075S.pdf; Category: Trans; Temperature Range Low: -55°C; Number Of N Channels: 1; Octopart: https://octopart.com/dmn6075s-7-diodes+inc.-55697882; RoHS: TRUE; Temperature: -55°C to +150°C; Drain To Source Voltage: 60V; Supplier 1: Digi-Key; Stock 1: 363651; Pricing 1: 1=0.33000, 10=0.23000, 25=0.21440, 100=0.11630, 500=0.09486, 1000=0.07038 (USD); Mount: Surface Mount; Case/Package: TO-236-3; Min Operating Temperature: -55°C; Max Operating Temperature: 150°C; Packaging: Tape and Reel; Drain to Source Voltage (Vdss): 60V; Continuous Drain Current (ID): 2A; ComponentLink1URL: http://www.mouser.com/ds/2/115/DMN6075S-532804.pdf?src-supplier=Mouser; ComponentLink1Description: http://www.mouser.com/ds/2/115/DMN6075S-532804.pdf?src-supplier=Mouser; ComponentLink3URL: https://www.diodes.com/assets/Datasheets/DMN6075S.pdf?src-supplier=Digi-Key; ComponentLink3Description: https://www.diodes.com/assets/Datasheets/DMN6075S.pdf?src-supplier=Digi-Key
footprint FP-SOT23-MFG
pins: D, G, S

## CSR1206FKR250
designator R?, comment 250mR
Res Thick Film 1206 250m Ohm 1% 1/2W 100ppm/C Molded SMD Paper T/R; Manufacturer: Stackpole Electronics; Manufacturer Part Number: CSR1206FKR250; Max Power Dissipation: 500mW; Temperature Coefficient: 100ppm/°C; Supplier 1: Digi-Key; RoHS: Yes; Category: Chip SMD Resistors; Stock 1: 244191; Pricing 1: 1=0.41000, 10=0.31100, 25=0.23640, 50=0.17560, 100=0.13050, 250=0.11024, 500=0.09450 (USD); Mount: Surface Mount; Case/Package: 1206; Case Code (Imperial): 1206; Contact Plating: Tin,Matte; Case Code (Metric): 3216; Min Operating Temperature: -55°C; Max Operating Temperature: 155°C; Resistance: 250mR; Tolerance: 1%; Packaging: Tape and Reel; Power Rating: 500mW; Resistor Type: Thick Film; Termination: Wraparound; Number of Terminations: 2; Length: 0.12inch; Width: 0.061inch; Height: 0.026inch; Lead Free: Lead Free; ComponentLink1URL: https://www.seielect.com/catalog/SEI-Packaging.pdf?src-supplier=Digi-Key; ComponentLink1Description: https://www.seielect.com/catalog/SEI-Packaging.pdf?src-supplier=Digi-Key; ComponentLink2URL: https://www.seielect.com/catalog/SEI-CSR_CSRN.pdf?src-supplier=Avnet+Asia; ComponentLink2Description: https://www.seielect.com/catalog/SEI-CSR_CSRN.pdf?src-supplier=Avnet+Asia; Supplier Part Number 1: CSR1206FKR250CT-ND
footprint CSR1206FKR250 (1206 Res)
pins: 1, 2

## ERA-6AED331V
designator R?, comment 330R
Res Thin Film 0805 330 Ohm 0.5% 0.125W(1/8W) ±25ppm/C Molded SMD Automotive Punched T/R; Manufacturer: Panasonic; Manufacturer Part Number: ERA-6AED331V; Temperature Coefficient: 25ppm/°C; Power Rating: 125mW; Voltage Rating: 200V; Supplier 1: Digi-Key; RoHS: Yes; Category: Resistor; Stock 1: 11862; Pricing 1: 1=0.10000, 10=0.09400, 25=0.06480, 50=0.05040, 100=0.03600, 250=0.02808, 500=0.02232, 1000=0.01584 (USD); Mount: Surface Mount; Case/Package: 0805; Contact Plating: Tin; Case Code (Metric): 2012; Case Code (Imperial): 0805; Min Operating Temperature: -55°C; Max Operating Temperature: 155°C; Termination: SMD/SMT; Resistor Type: Thin Film; Resistance: 330R; Tolerance: 0.5%; Packaging: Tape and Reel; Package Quantity: 5000; Length: 2mm; Height: 0.5mm; Depth: 1.25mm; Width: 1.25mm; Military Standard: Not; Lead Free: Lead Free; ComponentLink1URL: https://datasheet.ciiva.com/24071/aoa0000ce26-197354-24071480.pdf?src-supplier=Mouser; ComponentLink1Description: https://datasheet.ciiva.com/24071/aoa0000ce26-197354-24071480.pdf?src-supplier=Mouser; ComponentLink2URL: https://datasheet.ciiva.com/9182/aoa0000ce26-9182970.pdf?src-supplier=Avnet; ComponentLink2Description: https://datasheet.ciiva.com/9182/aoa0000ce26-9182970.pdf?src-supplier=Avnet; Supplier Part Number 1: P123837CT-ND
footprint RES_0805_PANASONIC
pins: 1, 2

## ERA-6AED472V
designator R?, comment 4.7kR
Res Thin Film 0805 4.7K Ohm 0.5% 0.125W(1/8W) ±25ppm/C Molded SMD Automotive Punched T/R; Manufacturer: Panasonic; Manufacturer Part Number: ERA-6AED472V; Temperature Coefficient: 25ppm/°C; Power Rating: 125mW; Voltage Rating: 100V; Supplier 1: Digi-Key; RoHS: Yes; Category: Chip SMD Resistors; Stock 1: 25343; Pricing 1: 1=0.10000, 10=0.09400, 100=0.03600, 1000=0.01584, 2500=0.01368 (USD); Mount: Surface Mount; Case/Package: 0805; Case Code (Imperial): 0805; Case Code (Metric): 2012; Contact Plating: Tin; Min Operating Temperature: -55°C; Max Operating Temperature: 155°C; Resistor Type: Metal Film,Thin Film; Package Quantity: 5000; Resistance: 4.7kR; Packaging: Tape and Reel; Tolerance: 0.5%; Length: 2mm; Height: 0.5mm; Depth: 1.25mm; Width: 1.25mm; Lead Free: Lead Free; Military Standard: Not; ComponentLink1URL: https://datasheet.ciiva.com/24027/aoa0000ce26-32660-24027576.pdf?src-supplier=Mouser; ComponentLink1Description: https://datasheet.ciiva.com/24027/aoa0000ce26-32660-24027576.pdf?src-supplier=Mouser; Supplier Part Number 1: P123914CT-ND
footprint RES_0805_PANASONIC
pins: 1, 2

## ERJ-6ENF1004V
designator R?, comment 1MR
Res Thick Film 0805 1M Ohm 1% 1/8W ±100ppm/°C Molded SMD Punched Carrier T/R; Manufacturer: Panasonic; Manufacturer Part Number: ERJ-6ENF1004V; Power Rating: 125mW; Voltage Rating: 150V; Supplier 1: Digi-Key; Category: Resistor; Stock 1: 249385; Pricing 1: 1=0.10000, 10=0.06900, 100=0.02650, 1000=0.01166, 2500=0.01007 (USD); Mount: Surface Mount; Case/Package: 0805; Number of Pins: 2; Case Code (Imperial): 0805; Case Code (Metric): 2012; Contact Plating: Tin; Min Operating Temperature: -55°C; Max Operating Temperature: 155°C; Package Quantity: 1; Resistance: 1MR; Packaging: Tape and Reel; Tolerance: 1%; Termination: SMD/SMT; Composition: Thick Film; Number of Terminations: 2; Military Standard: Not; Temperature Coefficient: 100ppm/°C; Max Power Dissipation: 125mW; Voltage Rating (DC): 150V; Features: Automotive AEC-Q200; Length: 2mm; Height: 0.6mm; Width: 1.2mm; Depth: 1.25mm; Radiation Hardening: No; REACH SVHC: No SVHC; Lead Free: Lead Free; ComponentLink1URL: https://datasheet.ciiva.com/11821/0900766b80f80784-11821573.pdf?src-supplier=RSComponents; ComponentLink1Description: https://datasheet.ciiva.com/11821/0900766b80f80784-11821573.pdf?src-supplier=RSComponents; ComponentLink2URL: https://datasheet.ciiva.com/16761/70260748-16761141.pdf?src-supplier=Allied+Electronics; ComponentLink2Description: https://datasheet.ciiva.com/16761/70260748-16761141.pdf?src-supplier=Allied+Electronics; ComponentLink3URL: https://datasheet.ciiva.com/22749/426256-22749637.pdf?src-supplier=Element14; ComponentLink3Description: https://datasheet.ciiva.com/22749/426256-22749637.pdf?src-supplier=Element14; ComponentLink4URL: https://datasheet.ciiva.com/30161/aoa0000ce2-30161525.pdf?src-supplier=Onlinecomponents.com; ComponentLink4Description: https://datasheet.ciiva.com/30161/aoa0000ce2-30161525.pdf?src-supplier=Onlinecomponents.com; ComponentLink5URL: https://datasheet.ciiva.com/48532/aoa0000ce2-48532149.pdf?src-supplier=Avnet; ComponentLink5Description: https://datasheet.ciiva.com/48532/aoa0000ce2-48532149.pdf?src-supplier=Avnet; ComponentLink6URL: https://datasheet.ciiva.com/8079/426256-8079622.pdf?src-supplier=Element14; ComponentLink6Description: https://datasheet.ciiva.com/8079/426256-8079622.pdf?src-supplier=Element14; ComponentLink7URL: https://datasheet.ciiva.com/27055/1988997-27055735.pdf?src-supplier=Jameco; ComponentLink7Description: https://datasheet.ciiva.com/27055/1988997-27055735.pdf?src-supplier=Jameco; ComponentLink8URL: https://datasheet.ciiva.com/5868/426256-5868184.pdf?src-supplier=Farnell; ComponentLink8Description: https://datasheet.ciiva.com/5868/426256-5868184.pdf?src-supplier=Farnell; ComponentLink9URL: https://datasheet.ciiva.com/46420/1678782-46420186.pdf?src-supplier=Element14; ComponentLink9Description: https://datasheet.ciiva.com/46420/1678782-46420186.pdf?src-supplier=Element14; ComponentLink10URL: https://datasheet.ciiva.com/16788/70260748-16788299.pdf?src-supplier=Allied+Electronics; ComponentLink10Description: https://datasheet.ciiva.com/16788/70260748-16788299.pdf?src-supplier=Allied+Electronics; ComponentLink11URL: https://datasheet.ciiva.com/7909/426256-7909229.pdf?src-supplier=Element14; ComponentLink11Description: https://datasheet.ciiva.com/7909/426256-7909229.pdf?src-supplier=Element14; ComponentLink12URL: https://datasheet.ciiva.com/15158/getdatasheetpartid-246555-15158845.pdf?src-supplier=Verical; ComponentLink12Description: https://datasheet.ciiva.com/15158/getdatasheetpartid-246555-15158845.pdf?src-supplier=Verical; ComponentLink13URL: http://datasheet.octopart.com/ERJ-6ENF1004V-Panasonic-datasheet-5313456.pdf?src-supplier=Farnell; ComponentLink13Description: http://datasheet.octopart.com/ERJ-6ENF1004V-Panasonic-datasheet-5313456.pdf?src-supplier=Farnell; ComponentLink14URL: http://datasheet.octopart.com/ERJ-6ENF1004V-Panasonic-datasheet-13266541.pdf?src-supplier=Allied+Electronics; ComponentLink14Description: http://datasheet.octopart.com/ERJ-6ENF1004V-Panasonic-datasheet-13266541.pdf?src-supplier=Allied+Electronics; ComponentLink15URL: http://datasheet.octopart.com/ERJ-6ENF1004V-Panasonic-datasheet-48891056.pdf?src-supplier=Newark; ComponentLink15Description: http://datasheet.octopart.com/ERJ-6ENF1004V-Panasonic-datasheet-48891056.pdf?src-supplier=Newark; ComponentLink16URL: http://datasheet.octopart.com/ERJ-6ENF1004V-Panasonic-datasheet-8853621.pdf?src-supplier=Future+Electronics; ComponentLink16Description: http://datasheet.octopart.com/ERJ-6ENF1004V-Panasonic-datasheet-8853621.pdf?src-supplier=Future+Electronics; ComponentLink17URL: http://datasheet.octopart.com/ERJ-6ENF1004V-Panasonic-datasheet-10025800.pdf?src-supplier=Future+Electronics; ComponentLink17Description: http://datasheet.octopart.com/ERJ-6ENF1004V-Panasonic-datasheet-10025800.pdf?src-supplier=Future+Electronics; ComponentLink18URL: http://datasheet.octopart.com/ERJ-6ENF1004V-Panasonic-datasheet-136608610.pdf?src-supplier=Farnell; ComponentLink18Description: http://datasheet.octopart.com/ERJ-6ENF1004V-Panasonic-datasheet-136608610.pdf?src-supplier=Farnell; ComponentLink19URL: http://datasheet.octopart.com/ERJ-6ENF1004V-Panasonic-datasheet-41391857.pdf?src-supplier=Electro+Sonic; ComponentLink19Description: http://datasheet.octopart.com/ERJ-6ENF1004V-Panasonic-datasheet-41391857.pdf?src-supplier=Electro+Sonic; ComponentLink20URL: http://datasheet.octopart.com/ERJ-6ENF1004V-Panasonic-datasheet-7538305.pdf?src-supplier=Jameco; ComponentLink20Description: http://datasheet.octopart.com/ERJ-6ENF1004V-Panasonic-datasheet-7538305.pdf?src-supplier=Jameco; ComponentLink21URL: http://datasheet.octopart.com/ERJ-6ENF1004V-Panasonic-datasheet-78375410.pdf; ComponentLink21Description: http://datasheet.octopart.com/ERJ-6ENF1004V-Panasonic-datasheet-78375410.pdf; ComponentLink22URL: http://datasheet.octopart.com/ERJ-6ENF1004V-Panasonic-datasheet-82288794.pdf?src-supplier=Future+Electronics; ComponentLink22Description: http://datasheet.octopart.com/ERJ-6ENF1004V-Panasonic-datasheet-82288794.pdf?src-supplier=Future+Electronics; ComponentLink23URL: http://datasheet.octopart.com/ERJ-6ENF1004V-Panasonic-datasheet-118602.pdf?src-supplier=Digi-Key; ComponentLink23Description: http://datasheet.octopart.com/ERJ-6ENF1004V-Panasonic-datasheet-118602.pdf?src-supplier=Digi-Key; ComponentLink24URL: http://datasheet.octopart.com/ERJ-6ENF1004V-Panasonic---ECG-datasheet-15994758.pdf?src-supplier=Farnell; ComponentLink24Description: http://datasheet.octopart.com/ERJ-6ENF1004V-Panasonic---ECG-datasheet-15994758.pdf?src-supplier=Farnell; Supplier Part Number 1: P1.00MCCT-ND
footprint RES_0805_PANASONIC
pins: 1, 2